# EAGLE library part ADS8588HIPM (library SamacSys_Parts)
Analog to Digital Converters - ADC 16-Bit 500kSPS 8-Channel Simultaneous-Sampling ADC With Bipolar Inputs on a Single Supply 64-LQFP -40 to 125 Source: Datasheet <http://www.ti.com/lit/ds/symlink/ads8588h.pdf>
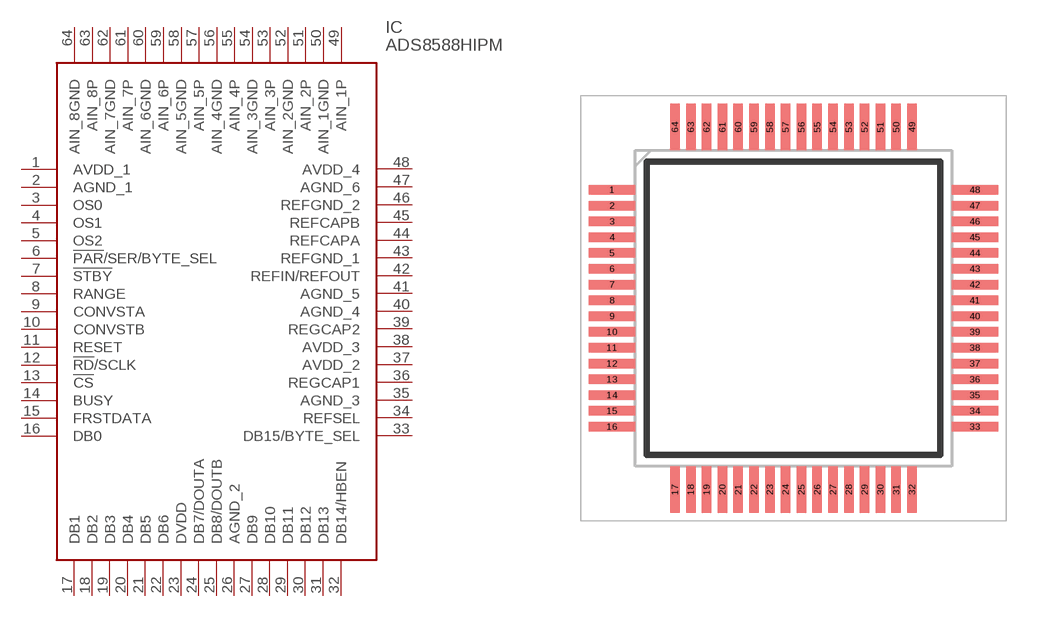
[diagram p11: symbol with the pads of QFP50P1200X1200X160-64N; footprint QFP50P1200X1200X160-64N]

Designator prefix IC

## ADS8588HIPM (DESCRIPTION: Analog to Digital Converters - ADC 16-Bit 500kSPS 8-Channel Simultaneous-Sampling ADC With Bipolar Inputs on a Single Supply 64-LQFP -40 to 125; HEIGHT: 1.6mm; MANUFACTURER_NAME: Texas Instruments; MANUFACTURER_PART_NUMBER: ADS8588HIPM; MOUSER_PART_NUMBER: 595-ADS8588HIPM; MOUSER_PRICE-STOCK: https://www.mouser.co.uk/ProductDetail/Texas-Instruments/ADS8588HIPM?qs=1mbolxNpo8fD0GiY8NoIhA%3D%3D)  [QFP50P1200X1200X160-64N]
1  AVDD_1  pwr
2  AGND_1  pwr
3  OS0  in
4  OS1  in
5  OS2  in
6  !PAR!/SER/BYTE_SEL  in
7  !STBY  in
8  RANGE  in
9  CONVSTA  in
10  CONVSTB  in
11  RESET  in
12  !RD!/SCLK  in
13  !CS  in
14  BUSY  out
15  FRSTDATA  out
16  DB0  out
17  DB1  out
18  DB2  out
19  DB3  out
20  DB4  out
21  DB5  out
22  DB6  out
23  DVDD  pwr
24  DB7/DOUTA  out
25  DB8/DOUTB  out
26  AGND_2  pwr
27  DB9  out
28  DB10  out
29  DB11  out
30  DB12  out
31  DB13  out
32  DB14/HBEN
33  DB15/BYTE_SEL
34  REFSEL  in
35  AGND_3  pwr
36  REGCAP1  out
37  AVDD_2  pwr
38  AVDD_3  pwr
39  REGCAP2  out
40  AGND_4  pwr
41  AGND_5  pwr
42  REFIN/REFOUT
43  REFGND_1  pwr
44  REFCAPA  out
45  REFCAPB  out
46  REFGND_2  pwr
47  AGND_6  pwr
48  AVDD_4  pwr
49  AIN_1P  in
50  AIN_1GND  in
51  AIN_2P  in
52  AIN_2GND  in
53  AIN_3P  in
54  AIN_3GND  in
55  AIN_4P  in
56  AIN_4GND  in
57  AIN_5P  in
58  AIN_5GND  in
59  AIN_6P  in
60  AIN_6GND  in
61  AIN_7P  in
62  AIN_7GND  in
63  AIN_8P  in
64  AIN_8GND  in

## Footprint QFP50P1200X1200X160-64N (pad centres in mm)
PLASTIC 64-PIN QFP
smd 1.475 x 0.3: 1 -5.738,3.75; 2 -5.738,3.25; 3 -5.738,2.75; 4 -5.738,2.25; 5 -5.738,1.75; 6 -5.738,1.25; 7 -5.738,0.75; 8 -5.738,0.25; 9 -5.738,-0.25; 10 -5.738,-0.75; 11 -5.738,-1.25; 12 -5.738,-1.75; 13 -5.738,-2.25; 14 -5.738,-2.75; 15 -5.738,-3.25; 16 -5.738,-3.75; 33 5.738,-3.75; 34 5.738,-3.25; 35 5.738,-2.75; 36 5.738,-2.25; 37 5.738,-1.75; 38 5.738,-1.25; 39 5.738,-0.75; 40 5.738,-0.25; 41 5.738,0.25; 42 5.738,0.75; 43 5.738,1.25; 44 5.738,1.75; 45 5.738,2.25; 46 5.738,2.75; 47 5.738,3.25; 48 5.738,3.75
smd 0.3 x 1.475: 17 -3.75,-5.738; 18 -3.25,-5.738; 19 -2.75,-5.738; 20 -2.25,-5.738; 21 -1.75,-5.738; 22 -1.25,-5.738; 23 -0.75,-5.738; 24 -0.25,-5.738; 25 0.25,-5.738; 26 0.75,-5.738; 27 1.25,-5.738; 28 1.75,-5.738; 29 2.25,-5.738; 30 2.75,-5.738; 31 3.25,-5.738; 32 3.75,-5.738; 49 3.75,5.738; 50 3.25,5.738; 51 2.75,5.738; 52 2.25,5.738; 53 1.75,5.738; 54 1.25,5.738; 55 0.75,5.738; 56 0.25,5.738; 57 -0.25,5.738; 58 -0.75,5.738; 59 -1.25,5.738; 60 -1.75,5.738; 61 -2.25,5.738; 62 -2.75,5.738; 63 -3.25,5.738; 64 -3.75,5.738